# EAGLE library part TPS61090RSAR (library TPS61090)
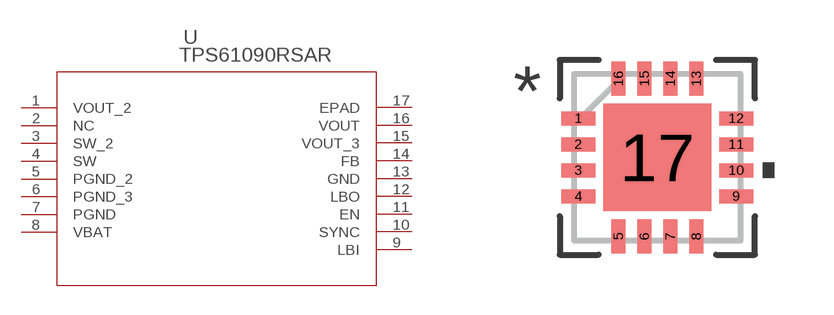
[diagram p0: symbol with the pads of RSA16_2P7X2P7; footprint RSA16_2P7X2P7]

Designator prefix U

## TPS61090RSAR (MANUFACTURER_PART_NUMBER: TPS61090RSAR; VENDOR: Texas Instruments)  [RSA16_2P7X2P7]
1  VOUT_2  out
2  NC  pas
3  SW_2  in
4  SW  in
5  PGND_2
6  PGND_3
7  PGND
8  VBAT  in
9  LBI  in
10  SYNC  in
11  EN  in
12  LBO  out
13  GND  pwr
14  FB  in
15  VOUT_3  out
16  VOUT  out
17  EPAD  pas

## Footprint RSA16_2P7X2P7 (pad centres in mm)
smd 0.85 x 0.35: 1 -1.975,0.975; 2 -1.975,0.325; 3 -1.975,-0.325; 4 -1.975,-0.975; 9 1.975,-0.975; 10 1.975,-0.325; 11 1.975,0.325; 12 1.975,0.975
smd 0.35 x 0.85: 5 -0.975,-1.975; 6 -0.325,-1.975; 7 0.325,-1.975; 8 0.975,-1.975; 13 0.975,1.975; 14 0.325,1.975; 15 -0.325,1.975; 16 -0.975,1.975
smd 2.692 x 2.692: 17 0,0